# Altium footprint library PCB - DIODES - ST DO214AB SMC.PCBLIB: 1 footprints
Each footprint in its own frame and in the unit in brackets; x right, y up, seen from the top. Pads: shape width x height; smd on the part's side, far side on the other; paste and mask are expansions set on the pad; w line width, h text height; cw(c..) or ccw(c..) is an arc to the next point about the centre after c.
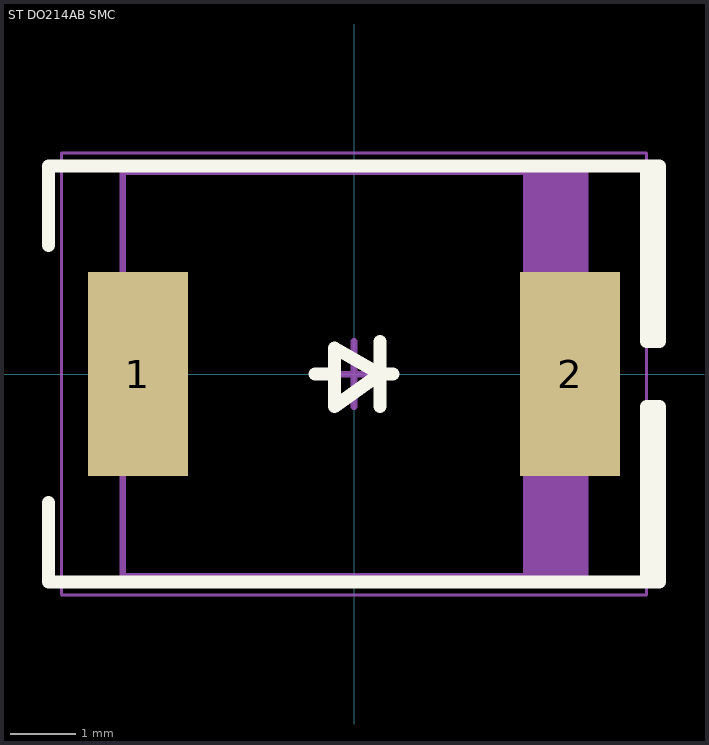
[diagram p0: the footprint, top view; thin cyan lines are the x and y axes]

## ST DO214AB SMC [mm] "Molded Diode, 2-Leads, Body 6.85x5.90mm, IPC Medium Density"
height 2.62
pads (2):
  rect 1.54x3.14 smd: 1(-3.325,0) 2(3.325,0)
Top Overlay:
  lines w0.2: -4.7,-1.975 -4.7,-3.2 4.7,-3.2 4.7,-0.5 4.5,-0.5 4.5,-3.2 ; -4.7,1.975 -4.7,3.2 4.7,3.2 4.7,0.5 4.5,0.5 4.5,3.2 ; -0.6,0 -0.3,0 ; 0.4,-0.5 0.4,0.5 ; 0.6,0 0.4,0 ; 0.4,0 -0.3,0.4 -0.3,-0.5 0.4,0
Mechanical 13:
  rectangle: 2.599,-3.11 3.555,3.11
  lines w0.1: -3.555,-3.11 3.555,-3.11 3.555,3.11 -3.555,3.11 -3.555,-3.11
Mechanical 15:
  lines w0.05: -4.5,-3.4 4.5,-3.4 4.5,3.4 -4.5,3.4 -4.5,-3.4
2:
  lines w0.1: -0.5,0 0.5,0 ; 0,-0.5 0,0.5
3D body "SMC.STEP": height 2.6, standoff 0, extent -3.97,-2.952 3.97,2.952